# EAGLE library part MCP3202 (library ElectricNoodleBox)
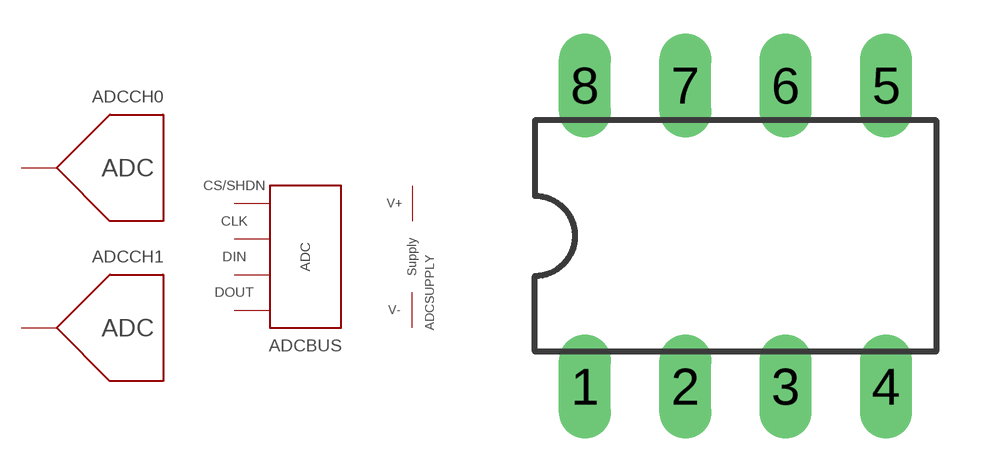
[diagram p27: symbol with the pads of DIL08; footprint DIL08]

Designator prefix ADC; gates CH0=ADCSINGLE CH1=ADCSINGLE BUS=ADC_MCP_CORE SUPPLY=SUPPLYPINS

## MCP3202  [DIL08]
1  BUS:CS/SHDN  in
2  CH0:CHAN_IN  in
3  CH1:CHAN_IN  in
4  SUPPLY:V-
5  BUS:DIN  in
6  BUS:DOUT  out
7  BUS:CLK  in
8  SUPPLY:V+

## Footprint DIL08 (pad centres in mm)
Dual In Line Package
drill 0.813 long: 1 -3.81,-3.81; 2 -1.27,-3.81; 3 1.27,-3.81; 4 3.81,-3.81; 5 3.81,3.81; 6 1.27,3.81; 7 -1.27,3.81; 8 -3.81,3.81